# Altium footprint library sensor_lib.PcbLib: 2 footprints
Each footprint in its own frame and in the unit in brackets; x right, y up, seen from the top. Pads: shape width x height; smd on the part's side, far side on the other; paste and mask are expansions set on the pad; w line width, h text height; cw(c..) or ccw(c..) is an arc to the next point about the centre after c.
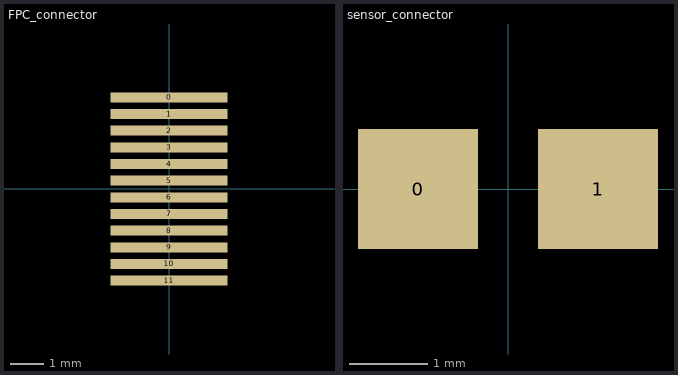
[diagram p0: the footprints below, top view; thin cyan lines are the x and y axes]

## FPC_connector [mm]
pads (12):
  rect 3.5x0.3 smd: 0(0,2.75) 1(0,2.25) 2(0,1.75) 3(0,1.25) 4(0,0.75) 5(0,0.25) 6(0,-0.25) 7(0,-0.75) 8(0,-1.25) 9(0,-1.75) 10(0,-2.25) 11(0,-2.75)

## sensor_connector [mil]
pads (2):
  rect 60x60 smd: 0(-45,0) 1(45,0)